# Altium footprint library 2008_SablierElectronique_PCBLIB.PcbLib: 26 footprints (part 1 of 2)
Each footprint in its own frame and in the unit in brackets; x right, y up, seen from the top. Pads: shape width x height; smd on the part's side, far side on the other; paste and mask are expansions set on the pad; w line width, h text height; cw(c..) or ccw(c..) is an arc to the next point about the centre after c.
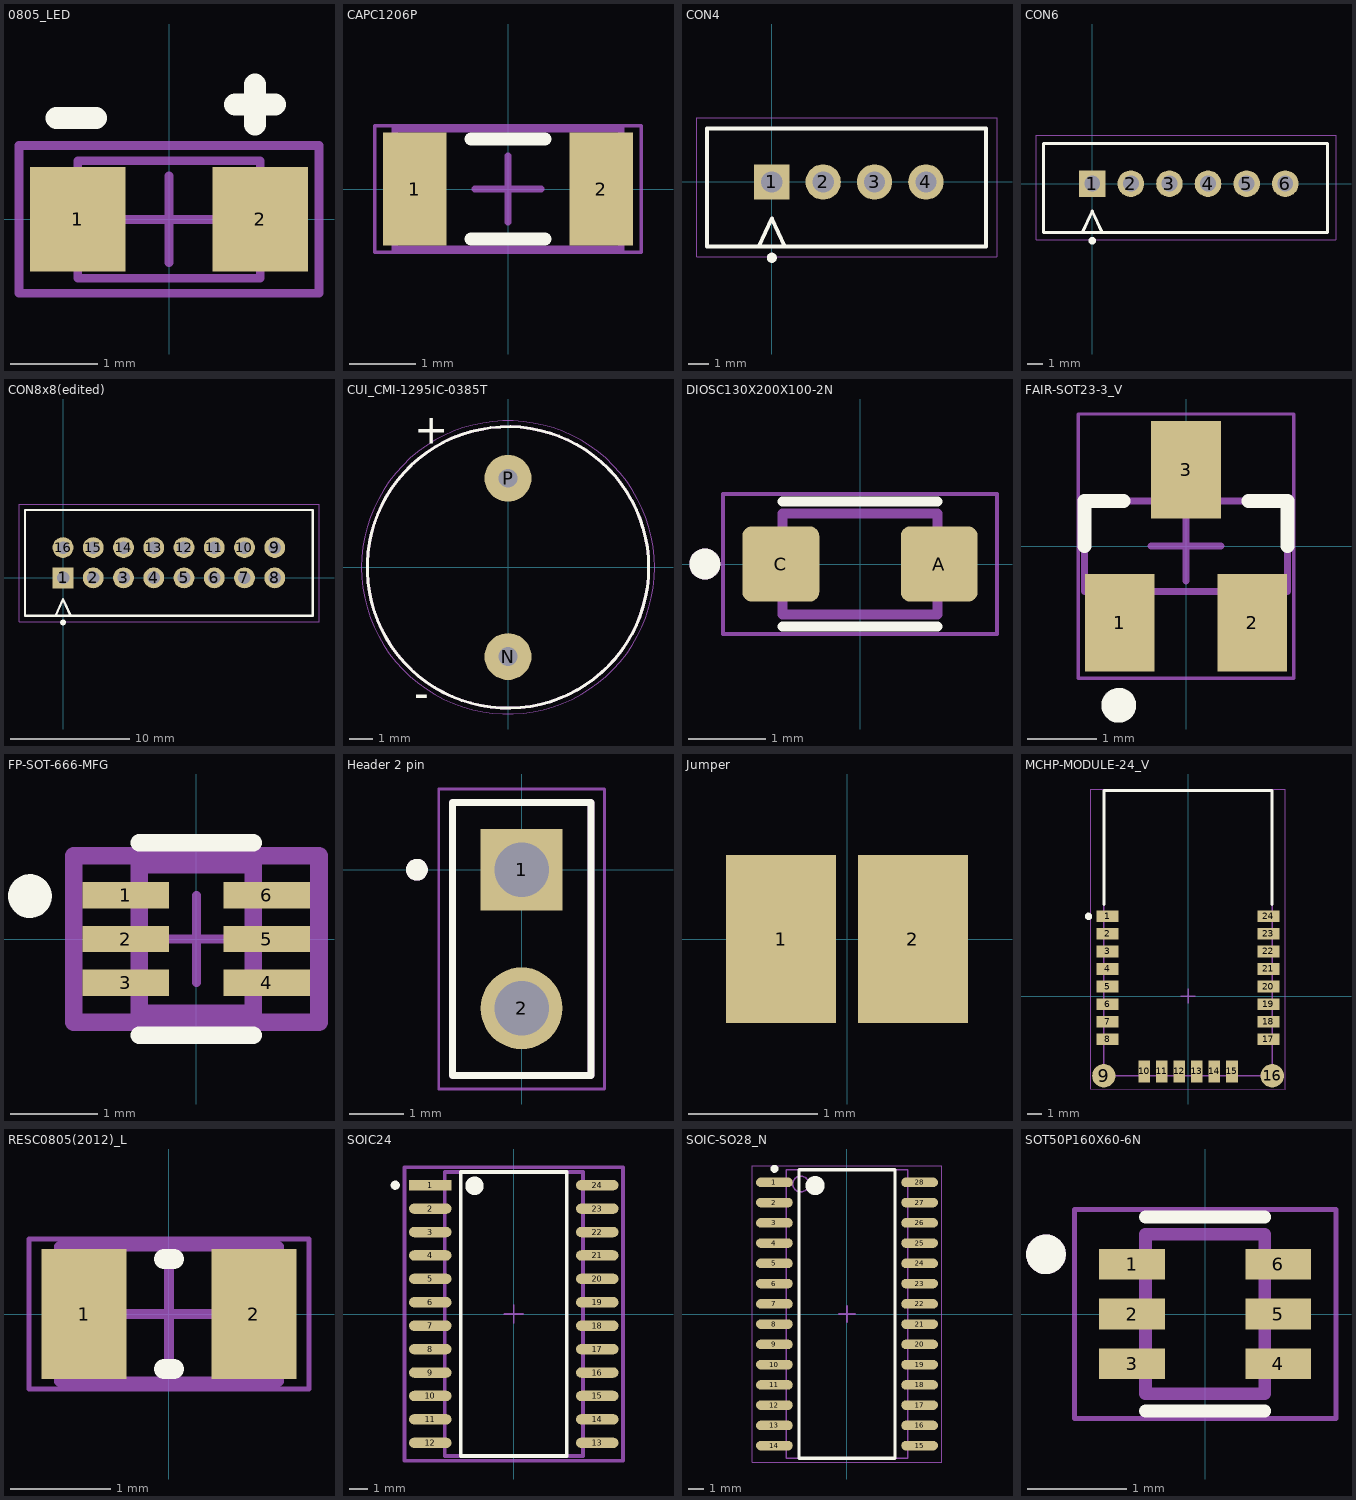
[diagram p0: the footprints below, top view; thin cyan lines are the x and y axes]

## 0805_LED [mm] "Chip LED, 2-Leads, Body 2.0x1.3mm, IPC Medium Density"
height 0.8
pads (2):
  rect 1.1x1.2 smd: 1(-1.05,0) 2(1.05,0)
Top Overlay:
  lines w0.254: -1.295,1.168 -0.838,1.168 ; 0.762,1.321 1.219,1.321 ; 0.991,1.092 0.991,1.549
Mechanical 13:
  lines w0.1: -1.05,-0.675 1.05,-0.675 1.05,0.675 -1.05,0.675 -1.05,-0.675
Mechanical 15:
  lines w0.1: -0.5,0 0.5,0 ; 0,-0.5 0,0.5 ; -1.725,-0.85 1.725,-0.85 1.725,0.85 -1.725,0.85 -1.725,-0.85
3D body "WL-SMCW_0805_LED.stp": height 0.68, standoff -0.02, extent -1,-0.625 1,0.625

## CAPC1206P [mm]
height 1.5
pads (2):
  rect 0.95x1.7 smd: 1(-1.4,0) 2(1.4,0)
Top Overlay:
  lines w0.2: -0.55,-0.75 0.55,-0.75 ; -0.55,0.75 0.55,0.75
Mechanical 13:
  lines w0.1: -1.7,-0.9 -1.7,0.9 1.7,0.9 1.7,-0.9 -1.7,-0.9
Mechanical 15:
  lines w0.05: -2,-0.95 -2,0.95 2,0.95 2,-0.95 -2,-0.95
  lines w0.1: -0.5,0 0.5,0 ; 0,-0.5 0,0.5
3D body: height 1.5, standoff 0, extent -1.2,-0.9 1.2,0.9
3D body: height 1.5, standoff 0, extent -1.7,-0.9 -1.2,0.9
3D body: height 1.5, standoff 0, extent 1.2,-0.9 1.7,0.9

## CON4 [mm] "2.54mm pitch, 16 pin, header;shrouded"
height 8.89
pads (4):
  rect 1.75x1.75 / inner round 1.75 / far side rect 1.75x1.75 hole 1.05 mask+0: 1(0,0)
  round 1.75 hole 1.05 mask+0: 2(2.54,0) 3(5.08,0) 4(7.62,0)
Top Overlay:
  circle w0.25: c0,-3.75 r0.125
  lines w0.2: -3.2,-3.2 -3.2,2.642 10.592,2.642 10.592,1.181 10.592,-1.74 10.592,-3.2 -3.2,-3.2 ; -0.646,-3.2 0,-1.8 0.646,-3.2 -0.646,-3.2
Mechanical 12:
  lines w0.001: -3.2,2.616 -3.2,-3.2 10.566,-3.2 ; -3.2,2.652 10.592,2.642 ; 10.617,-3.2 10.617,2.616
Mechanical 13:
  lines w0.1: 10.592,-3.2 -3.2,-3.2 -3.2,2.652 10.592,2.652 ; 10.617,-3.2 10.617,2.642 ; -0.646,-3.2 0,-1.8 0.646,-3.2 -0.646,-3.2
Mechanical 15:
  lines w0.05: -3.7,3.175 -3.7,-3.7 11.125,-3.7 ; -3.7,3.177 2.6,3.177 11.125,3.177 ; 11.137,-3.7 11.137,3.175

## CON6 [mm] "2.54mm pitch, 16 pin, header;shrouded"
height 8.89
pads (6):
  rect 1.75x1.75 / inner round 1.75 / far side rect 1.75x1.75 hole 1.05 mask+0: 1(0,0)
  round 1.75 hole 1.05 mask+0: 2(2.54,0) 3(5.08,0) 4(7.62,0) 5(10.16,0) 6(12.7,0)
Top Overlay:
  circle w0.25: c0,-3.75 r0.125
  lines w0.2: -3.2,-3.2 -3.2,2.642 15.494,2.642 15.494,-3.2 -3.2,-3.2 ; -0.646,-3.2 0,-1.8 0.646,-3.2 -0.646,-3.2
Mechanical 12:
  lines w0.001: -3.2,2.616 -3.2,-3.2 15.443,-3.2 ; -3.2,2.652 15.494,2.642 ; 15.519,-3.2 15.519,2.616
Mechanical 13:
  lines w0.1: -3.2,2.642 -3.2,-3.2 15.494,-3.2 ; -3.2,2.652 15.494,2.652 ; 15.519,-3.2 15.519,2.642 ; -0.646,-3.2 0,-1.8 0.646,-3.2 -0.646,-3.2
  text ".Designator" at 0,0 h1.52
Mechanical 15:
  lines w0.05: -3.7,3.175 -3.7,-3.7 16.027,-3.7 ; -3.7,3.177 2.6,3.177 15.2,3.177 16.027,3.177 ; 16.039,-3.7 16.039,3.175

## CON8x8(edited) [mm] "2.54mm pitch, 16 pin, header;shrouded"
height 8.89
pads (16):
  rect 1.75x1.75 / inner round 1.75 / far side rect 1.75x1.75 hole 1.05 mask+0: 1(0,0)
  round 1.75 hole 1.05 mask+0: 2(2.54,0) 3(5.08,0) 4(7.62,0) 5(10.16,0) 6(12.7,0) 7(15.24,0) 8(17.78,0) 9(17.78,2.54) 10(15.24,2.54) 11(12.7,2.54) 12(10.16,2.54) 13(7.62,2.54) 14(5.08,2.54) 15(2.54,2.54) 16(0,2.54)
Top Overlay:
  circle w0.25: c0,-3.75 r0.125
  lines w0.2: -3.2,-3.2 -3.2,5.7 20.98,5.7 20.98,-3.2 -3.2,-3.2 ; -0.646,-3.2 0.646,-3.2 0,-1.8 -0.646,-3.2
Mechanical 12:
  lines w0.001: -3.2,-3.2 -3.2,5.7 20.98,5.7 20.98,-3.2 -3.2,-3.2
Mechanical 13:
  lines w0.1: -3.2,-3.2 -3.2,5.7 20.98,5.7 20.98,-3.2 -3.2,-3.2 ; -0.646,-3.2 0.646,-3.2 0,-1.8 -0.646,-3.2
  text ".Designator" at 0,0 h1.52
Mechanical 15:
  lines w0.05: -3.7,-3.7 -3.7,6.2 21.5,6.2 21.5,-3.7 -3.7,-3.7
3D body "215447-8--3DModel-STEP-1.STEP": height 9.59, standoff -4.01, extent -1.372,-1.27 18.948,3.76

## CUI_CMI-1295IC-0385T [mm]
pads (2):
  round 2 hole 0.8: N(0,-3.8) P(0,3.8)
Top Overlay:
  circle w0.127: c0,0 r6
  text "-" at -4,-5.99 h1.27
  text "+" at -4,5.27 h1.27
Mechanical 13:
  circle w0.127: c0,0 r6
  text "-" at -4,-5.99 h1.27
  text "+" at -4,5.27 h1.27
Mechanical 15:
  circle w0.05: c0,0 r6.25

## DIOSC130X200X100-2N [mm]
pads (2):
  rrect25% 0.99x0.97 smd: A(1.02,0) C(-1.02,0)
Top Overlay:
  circle w0.2: c-2,0 r0.1
  lines w0.127: -1,-0.805 1,-0.805 ; -1,0.805 1,0.805
Mechanical 13:
  circle w0.2: c-2,0 r0.1
  lines w0.127: -1,-0.65 -1,0.65 1,0.65 1,-0.65 -1,-0.65
Mechanical 15:
  lines w0.05: -1.765,-0.9 1.765,-0.9 1.765,0.9 -1.765,0.9 -1.765,-0.9

## FAIR-SOT23-3_V [mm] "SOT23, 3-Leads, Body 2.92x1.3mm, Pitch 0.95mm"
height 1.2
pads (3):
  rect 1x1.4 smd: 1(-0.95,-1.1) 2(0.95,-1.1) 3(0,1.1)
Top Overlay:
  circle w0.25: c-0.965,-2.286 r0.125
  lines w0.2: -1.46,0 -1.46,0.65 -0.9,0.65 ; 0.9,0.65 1.46,0.65 1.46,0
Mechanical 13:
  lines w0.1: -1.46,-0.65 1.46,-0.65 1.46,0.65 -1.46,0.65 -1.46,-0.65
Mechanical 15:
  lines w0.05: -1.55,-1.9 1.55,-1.9 1.55,1.9 -1.55,1.9 -1.55,-1.9
  lines w0.1: -0.5,0 0.5,0 ; 0,-0.5 0,0.5
3D body: height 1.2, standoff 0, extent -1.46,-0.65 1.46,0.65

## FP-SOT-666-MFG [mm]
pads (6):
  rect 0.99x0.3 smd paste+0 mask+0: 1(-0.805,0.5) 2(-0.805,0) 3(-0.805,-0.5) 4(0.805,-0.5) 5(0.805,0) 6(0.805,0.5)
Top Overlay:
  circle w0.25: c-1.9,0.49 r0.125
  lines w0.2: -0.65,-1.1 0.65,-1.1 ; -0.65,1.1 0.65,1.1
Top 3D Body:
  lines w0.2: -0.65,-0.85 -0.65,0.85 0.65,0.85 0.65,-0.85 -0.65,-0.85
Top Courtyard:
  lines w0.2: -1.4,-0.95 -1.4,0.95 1.4,0.95 1.4,-0.95 -1.4,-0.95
Top Assembly:
  lines w0.2: -1.4,-0.95 -1.4,0.95 1.4,0.95 1.4,-0.95 -1.4,-0.95
  text ".Designator" at 0,0.188 h1
Top Component Center:
  lines w0.1: -0.5,0 0.5,0 ; 0,-0.5 0,0.5
3D body "Diode_STMicroelectronics_DSILC6-4P6_eec.STEP": height 0.25, standoff 0, extent -1.4,-0.95 1.4,0.95

## Header 2 pin [mm]
pads (2):
  rect 1.5x1.5 hole 1: 1(0,0)
  round 1.5 hole 1: 2(0,-2.54)
Top Overlay:
  circle w0.2: c-1.92,0 r0.1
  lines w0.127: -1.27,-3.77 1.27,-3.77 1.27,1.23 -1.27,1.23 -1.27,-3.77
Mechanical 13:
  circle w0.2: c-1.92,0 r0.1
  lines w0.127: -1.27,-3.77 1.27,-3.77 ; -1.27,-3.77 1.27,-3.77 ; -1.27,-3.77 -1.27,1.23 1.27,1.23 1.27,-3.77
Mechanical 15:
  lines w0.05: -1.52,-4.02 1.52,-4.02 1.52,1.48 -1.52,1.48 -1.52,-4.02

## Jumper [mm] "Jumper SMD"
height 0.7
pads (2):
  rect 0.85x1.3 smd paste+0 mask+0.025: 1(-0.508,0)
  rect 0.85x1.3 smd mask+0.025: 2(0.508,0)

## MCHP-MODULE-24_V [mm] "Module, 24-Leads, Body 11.5x19.5mm, Pitch 1.2mm"
height 2.3
pads (24):
  rect 1.5x0.8 smd: 1(-5.5,5.45) 2(-5.5,4.25) 3(-5.5,3.05) 4(-5.5,1.85) 5(-5.5,0.65) 6(-5.5,-0.55) 7(-5.5,-1.75) 8(-5.5,-2.95) 17(5.5,-2.95) 18(5.5,-1.75) 19(5.5,-0.55) 20(5.5,0.65) 21(5.5,1.85) 22(5.5,3.05) 23(5.5,4.25) 24(5.5,5.45)
  round 1.6 smd: 9(-5.75,-5.45) 16(5.75,-5.45)
  rect 0.8x1.5 smd: 10(-3,-5.15) 11(-1.8,-5.15) 12(-0.6,-5.15) 13(0.6,-5.15) 14(1.8,-5.15) 15(3,-5.15)
Top Overlay:
  circle w0.25: c-6.8,5.45 r0.125
  lines w0.2: -5.75,6.25 -5.75,14.05 5.75,14.05 5.75,6.25
Mechanical 13:
  lines w0.1: -5.75,-5.45 5.75,-5.45 5.75,14.05 -5.75,14.05 -5.75,-5.45
Mechanical 15:
  lines w0.05: -6.65,-6.35 6.65,-6.35 6.65,14.15 -6.65,14.15 -6.65,-6.35
  lines w0.1: -0.5,0 0.5,0 ; 0,-0.5 0,0.5
3D body: height 2.3, standoff 0, extent -5.75,-5.45 5.75,14.05

## RESC0805(2012)_L [mm] "Chip Resistor, Body 2.0x1.3mm, IPC High Density"
height 0.7
pads (2):
  rect 0.85x1.3 smd: 1(-0.85,0) 2(0.85,0)
Top Overlay:
  lines w0.2: -0.05,-0.55 0.05,-0.55 ; -0.05,0.55 0.05,0.55
Mechanical 13:
  lines w0.1: -1.1,-0.675 -1.1,0.675 1.1,0.675 1.1,-0.675 -1.1,-0.675
Mechanical 15:
  lines w0.05: -1.4,-0.75 -1.4,0.75 1.4,0.75 1.4,-0.75 -1.4,-0.75
  lines w0.1: -0.5,0 0.5,0 ; 0,-0.5 0,0.5
3D body: height 0.7, standoff 0, extent -1.1,-0.675 -0.68,0.675
3D body: height 0.7, standoff 0, extent -0.68,-0.675 0.68,0.675
3D body: height 0.7, standoff 0, extent 0.68,-0.675 1.1,0.675

## SOIC24 [mm]
pads (24):
  rect 2.298x0.567 smd paste+0 mask+0: 1(-4.528,6.985)
  rrect100% 2.298x0.567 smd paste+0 mask+0: 2(-4.528,5.715) 3(-4.528,4.445) 4(-4.528,3.175) 5(-4.528,1.905) 6(-4.528,0.635) 7(-4.528,-0.635) 8(-4.528,-1.905) 9(-4.528,-3.175) 10(-4.528,-4.445) 11(-4.528,-5.715) 12(-4.528,-6.985) 13(4.528,-6.985) 14(4.528,-5.715) 15(4.528,-4.445) 16(4.528,-3.175) 17(4.528,-1.905) 18(4.528,-0.635) 19(4.528,0.635) 20(4.528,1.905) 21(4.528,3.175) 22(4.528,4.445) 23(4.528,5.715) 24(4.528,6.985)
Top Overlay:
  circle w0.5: c-2.129,6.95 r0.25
  circle w0.25: c-6.427,6.985 r0.125
  lines w0.2: -2.879,-7.7 2.879,-7.7 2.879,7.7 -2.879,7.7 -2.879,-7.7
Top 3D Body:
  lines w0.2: -3.75,-7.7 3.75,-7.7 3.75,7.7 -3.75,7.7 -3.75,-7.7
Top Courtyard:
  lines w0.2: -5.927,-7.95 5.927,-7.95 5.927,7.95 -5.927,7.95 -5.927,-7.95
Top Assembly:
  lines w0.2: -5.927,-7.95 5.927,-7.95 5.927,7.95 -5.927,7.95 -5.927,-7.95
  text ".Designator" at 0,0.188 h1
Top Component Center:
  lines w0.1: -0.5,0 0.5,0 ; 0,-0.5 0,0.5
3D body "IC_Maxim_Integrated_MAX7219CWG+_eec.STEP": height 0.25, standoff 0, extent -5.927,-7.95 5.927,7.95

## SOIC-SO28_N [mm] "SOIC, 28-Leads, Body 17.9x7.5mm, Pitch 1.27mm, IPC Medium Density"
height 2.65
pads (28):
  oval 2.3x0.6 smd: 1(-4.55,8.255) 2(-4.55,6.985) 3(-4.55,5.715) 4(-4.55,4.445) 5(-4.55,3.175) 6(-4.55,1.905) 7(-4.55,0.635) 8(-4.55,-0.635) 9(-4.55,-1.905) 10(-4.55,-3.175) 11(-4.55,-4.445) 12(-4.55,-5.715) 13(-4.55,-6.985) 14(-4.55,-8.255) 15(4.55,-8.255) 16(4.55,-6.985) 17(4.55,-5.715) 18(4.55,-4.445) 19(4.55,-3.175) 20(4.55,-1.905) 21(4.55,-0.635) 22(4.55,0.635) 23(4.55,1.905) 24(4.55,3.175) 25(4.55,4.445) 26(4.55,5.715) 27(4.55,6.985) 28(4.55,8.255)
Top Overlay:
  circle w0.25: c-4.55,9.105 r0.125
  circle w0.6: c-2,8.05 r0.3
  lines w0.2: -3,-9.05 -3,9.05 3,9.05 3,-9.05 -3,-9.05
Mechanical 13:
  circle w0.1: c-2.9,8.15 r0.5
  lines w0.1: -3.8,-9.05 -3.8,9.05 3.8,9.05 3.8,-9.05 -3.8,-9.05
Mechanical 15:
  lines w0.05: -5.95,-9.3 -5.95,9.3 5.95,9.3 5.95,-9.3 -5.95,-9.3
  lines w0.1: -0.5,0 0.5,0 ; 0,-0.5 0,0.5
3D body: height 2.65, standoff 0.1, extent -3.8,-9.05 3.8,9.05

## SOT50P160X60-6N [mm]
pads (6):
  rect 0.66x0.31 smd: 1(-0.735,0.5) 2(-0.735,0) 3(-0.735,-0.5) 4(0.735,-0.5) 5(0.735,0) 6(0.735,0.5)
Top Overlay:
  circle w0.2: c-1.6,0.6 r0.1
  lines w0.127: -0.6,-0.975 0.6,-0.975 ; -0.6,0.975 0.6,0.975
Mechanical 13:
  circle w0.2: c-1.6,0.6 r0.1
  lines w0.127: -0.6,-0.8 -0.6,0.8 0.6,0.8 0.6,-0.8 -0.6,-0.8
Mechanical 15:
  lines w0.05: -1.315,-1.05 -1.315,1.05 1.315,1.05 1.315,-1.05 -1.315,-1.05